# Altium footprint library MyLibrary.PcbLib: 365 footprints (part 15 of 23)
Each footprint in its own frame and in the unit in brackets; x right, y up, seen from the top. Pads: shape width x height; smd on the part's side, far side on the other; paste and mask are expansions set on the pad; w line width, h text height; cw(c..) or ccw(c..) is an arc to the next point about the centre after c.
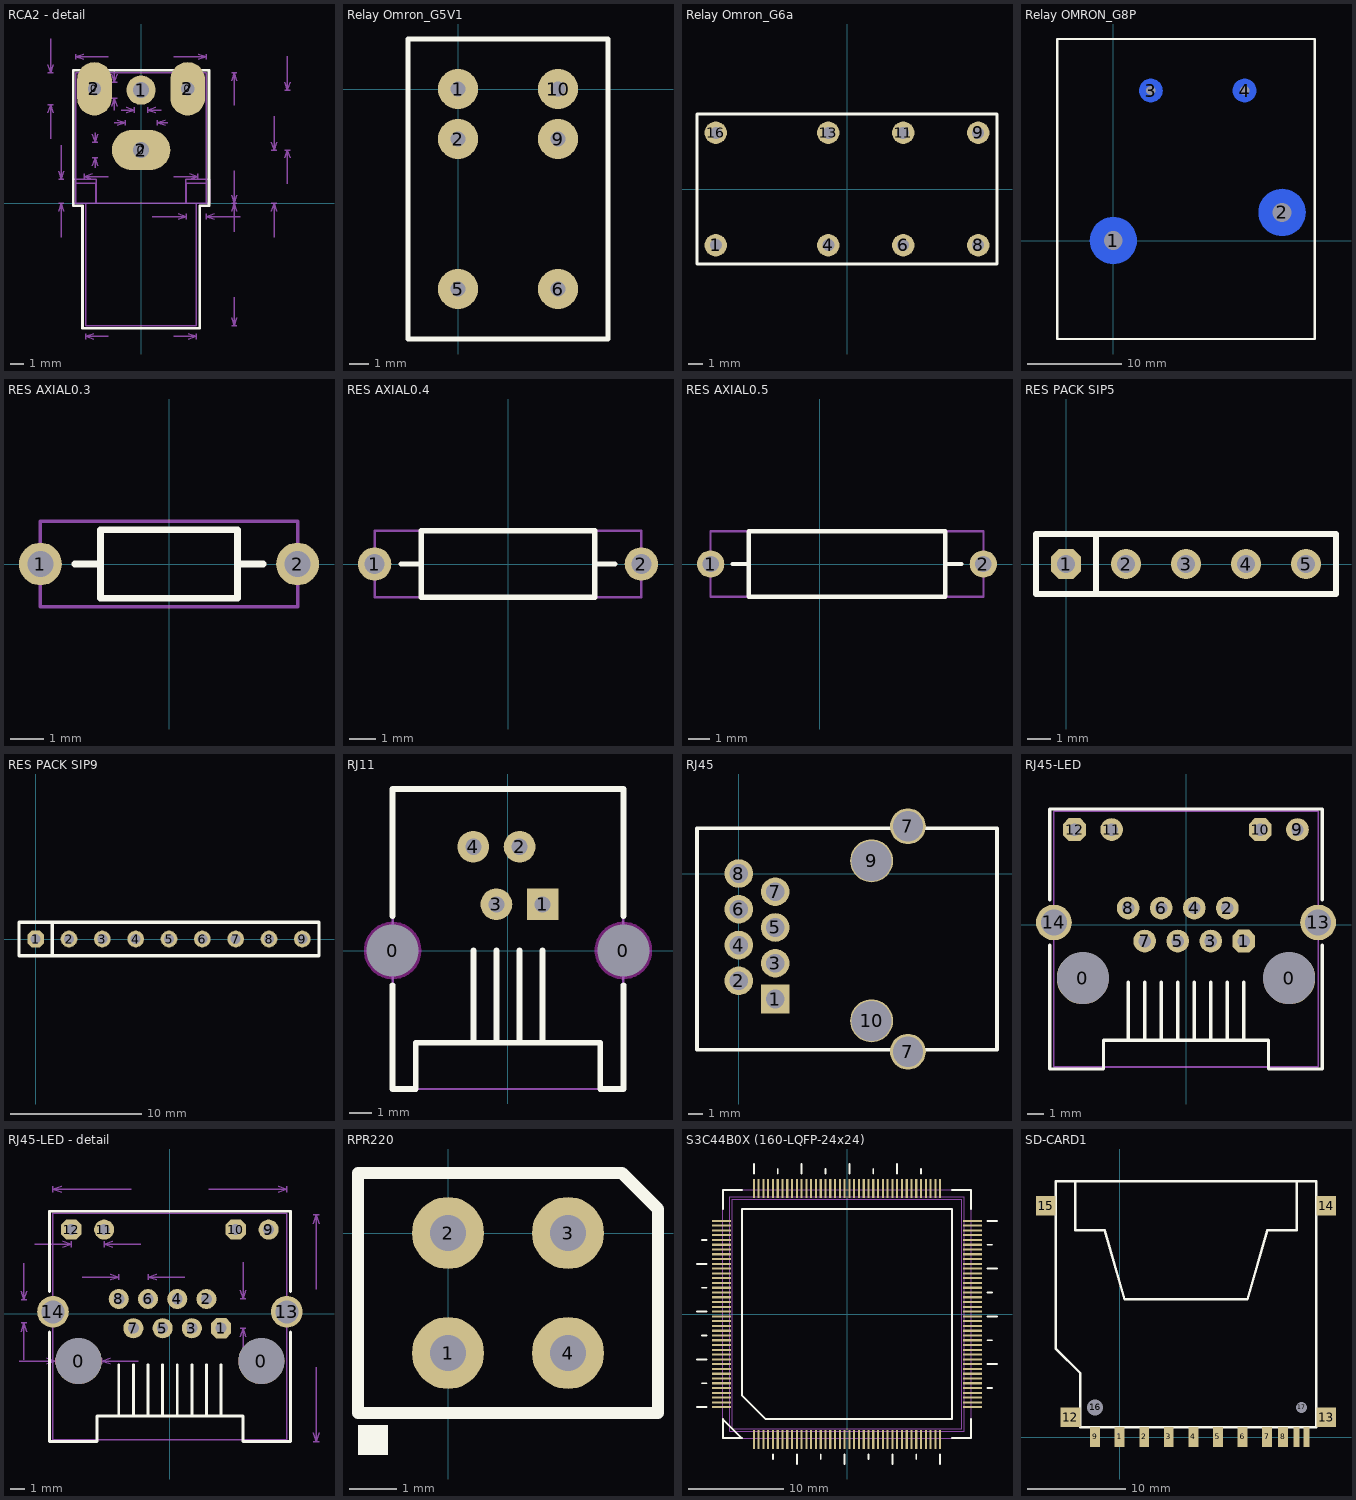
[diagram p14: the footprints below, top view; thin cyan lines are the x and y axes]

## RCA2 - detail [mm]
pads (7):
  rect 1x2.4 on Mech2: 0(-3.5,8.6) 0(3.5,8.6)
  rect 2.4x1.2 on Mech2: 0(0,4)
  round 2.2 hole 1.2: 1(0,8.5)
  oval 2.6x4 hole 1: 2(-3.5,8.6) 2(3.5,8.6)
  oval 4.4x3 hole 1.2: 2(0,4)
Top Overlay:
  lines w0.2: -5.1,-0.2 -4.4,-0.2 -4.4,-9.4 4.4,-9.4 4.4,-0.2 5.1,-0.2 5.1,10 -5.1,10 -5.1,-0.2
Mechanical 1:
  lines w0.1: -7,6.8 -6.8,7.4 ; -7,7.4 -6.6,7.4 ; -7,9.8 -6.6,9.8 ; -7,10.4 -6.8,9.8 ; -6.8,4.86 -6.8,7.4 ; -6.8,12.34 -6.8,9.8 ; -6.6,6.8 -6.8,7.4 ; -6.6,10.4 -6.8,9.8 ; -6.2,-0.6 -6,0 ; -6.2,0 -5.8,0 ; -6.2,1.8 -5.8,1.8 ; -6.2,2.4 -6,1.8 ; -6,-2.54 -6,0 ; -6,4.34 -6,1.8 ; -5.8,-0.6 -6,0 ; -5.8,2.4 -6,1.8 ; -4.9,1.5 -3.4,1.5 -3.4,0 ; -4.9,10.8 -4.9,11.2 ; -4.3,10.8 -4.9,11 ; -4.3,11.2 -4.9,11 ; -4.25,1.8 -4.25,2.2 ; -4.15,-10.2 -4.15,-9.8 ; -4.15,0 -4.15,-9.2 4.15,-9.2 4.15,0 ; -4,9.8 -4,7.4 -3,7.4 -3,9.8 ; -3.65,1.8 -4.25,2 ; -3.65,2.2 -4.25,2 ; -3.65,2.8 -3.45,3.4 ; -3.65,3.4 -3.25,3.4 ; -3.65,4.6 -3.25,4.6 ; -3.65,5.2 -3.45,4.6 ; -3.55,-10.2 -4.15,-10 ; -3.55,-9.8 -4.15,-10 ; -3.45,2.65 -3.45,3.4 ; -3.45,5.3 -3.45,4.6 ; -3.25,2.8 -3.45,3.4 ; -3.25,5.2 -3.45,4.6 ; -2.453,-10 -4.15,-10 ; -2.453,2 -4.25,2 ; -2.453,11 -4.9,11 ; -2.2,7.3 -2,7.9 ; -2.2,7.9 -1.8,7.9 ; -2.2,9.1 -1.8,9.1 ; -2.2,9.7 -2,9.1 ; -2,6.05 -1.2,6.05 ; -2,7 -2,7.9 ; -2,10 -2,9.1 ; -1.8,5.85 -1.2,6.05 ; -1.8,6.25 -1.2,6.05 ; -1.8,7.3 -2,7.9 ; -1.8,9.7 -2,9.1 ; -1.5,7 -0.5,7 ; -1.2,5.85 -1.2,6.25 ; -1.1,6.8 -0.5,7 ; -1.1,7.2 -0.5,7 ; -0.5,6.8 -0.5,7.2 ; 0.5,6.8 0.5,7.2 ; 0.86,-1 3.4,-1 ; 1.1,6.8 0.5,7 ; 1.1,7.2 0.5,7 ; 1.2,5.85 1.2,6.25 ; 1.5,7 0.5,7 ; 1.8,5.85 1.2,6.05 ; 1.8,6.25 1.2,6.05 ; 2,6.05 1.2,6.05 ; 2.453,-10 4.15,-10 ; 2.453,2 4.25,2 ; 2.453,11 4.9,11 ; 2.8,-1.2 3.4,-1 ; 2.8,-0.8 3.4,-1 ; 3,9.8 3,7.4 4,7.4 4,9.8 ; 3.4,-1.2 3.4,-0.8 ; 3.4,0 3.4,1.5 4.9,1.5 ; 3.55,-10.2 4.15,-10 ; 3.55,-9.8 4.15,-10 ; 3.65,1.8 4.25,2 ; 3.65,2.2 4.25,2 ; 4.15,-10.2 4.15,-9.8 ; 4.25,1.8 4.25,2.2 ; 4.3,10.8 4.9,11 ; 4.3,11.2 4.9,11 ; 4.9,-1.2 4.9,-0.8 ; 4.9,10.8 4.9,11.2 ; 5.5,-1.2 4.9,-1 ; 5.5,-0.8 4.9,-1 ; 6.8,-9.2 7.2,-9.2 ; 6.8,-8.6 7,-9.2 ; 6.8,-0.6 7,0 ; 6.8,0.6 7,0 ; 6.8,9.2 7,9.8 ; 6.8,9.8 7.2,9.8 ; 7,-7.053 7,-9.2 ; 7,-2.147 7,0 ; 7,2.447 7,0 ; 7,7.353 7,9.8 ; 7.2,-8.6 7,-9.2 ; 7.2,-0.6 7,0 ; 7.2,0.6 7,0 ; 7.2,9.2 7,9.8 ; 7.44,-1 4.9,-1 ; 9.8,-0.6 10,0 ; 9.8,0 10.2,0 ; 9.8,4 10.2,4 ; 9.8,4.6 10,4 ; 10,-2.54 10,0 ; 10,6.54 10,4 ; 10.2,-0.6 10,0 ; 10.2,4.6 10,4 ; 10.8,3.4 11,4 ; 10.8,4 11.2,4 ; 10.8,8.5 11.2,8.5 ; 10.8,9.1 11,8.5 ; 11,1.46 11,4 ; 11,11.04 11,8.5 ; 11.2,3.4 11,4 ; 11.2,9.1 11,8.5 ; -4.9,0 4.9,0 4.9,9.8 -4.9,9.8 -4.9,0 ; -1.2,3.4 1.2,3.4 1.2,4.6 -1.2,4.6 -1.2,3.4 ; -0.5,7.9 -0.5,9.1 0.5,9.1 0.5,7.9 -0.5,7.9 ; 6.8,0 7.2,0 6.8,0
  text "4.5 (mm)" at 11.35,4.15 h0.6
  text "4 (mm)" at 10.25,0.3 h0.6
  text "1.5 (mm)" at -0.25,-2.05 h0.6
  text "1.8 (mm)" at -6.75,-1.5 h0.6
  text "9.8 (mm)" at -2.199,10.6 h0.6
  text "8.5 (mm)" at -2.199,1.6 h0.6
  text "9.8 (mm)" at 7.4,2.701 h0.6
  text "9.2 (mm)" at 7.4,-6.799 h0.6
  text "8.3 (mm)" at -2.199,-10.4 h0.6
  text "2.4 (mm)" at 2.2,5.75 h0.6
  text "1 (mm)" at 1.65,6.8 h0.6
  text "1.2 (mm)" at -3.8,2.3 h0.6
  text "1.2 (mm)" at -1.75,10.25 h0.6
  text "2.4 (mm)" at -5.2,6.401 h0.6
Mechanical 2:
  lines w0.1: -5.15,0 -5.15,1.8 -3.35,1.8 -3.35,0 -5.15,0 ; 3.35,0 3.35,1.8 5.15,1.8 5.15,0 3.35,0

## Relay Omron_G5V1 [mil]
pads (6):
  round 80 hole 30: 1(0,0) 2(0,-100) 5(0,-400) 6(200,-400) 9(200,-100) 10(200,0)
Top Overlay:
  lines w10: -100,-500 300,-500 300,100 -100,100 -100,-500

## Relay Omron_G6a [mil]
pads (8):
  round 60 hole 32: 1(-350,-150) 4(-50,-150) 6(150,-150) 8(350,-150) 9(350,150) 11(150,150) 13(-50,150) 16(-350,150)
Top Overlay:
  lines w8: -400,-200 400,-200 400,200 -400,200 -400,-200

## Relay OMRON_G8P [mm]
pads (4):
  round 5 on Bottom hole 2: 1(0,0) 2(18,3)
  round 2.5 on Bottom hole 1: 3(4,16) 4(14,16)
Top Overlay:
  lines w0.254: -6,-10.5 -6,21.5 21.5,21.5 21.5,-10.5 -6,-10.5

## RES AXIAL0.3 [mil]
pads (2):
  round 50 hole 30: 1(-150,0) 2(150,0)
Top Overlay:
  lines w7.87: -110,0 -80,0 ; 80,0 110,0 ; -80,-40 80,-40 80,40 -80,40 -80,-40
Mechanical 1:
  lines w3.94: -150,-50 -150,50 150,50 150,-50 -150,-50

## RES AXIAL0.4 [mil]
pads (2):
  round 50 hole 30: 1(-200,0) 2(200,0)
Top Overlay:
  lines w7.87: -160,0 -130,0 ; 130,0 160,0 ; -130,-50 -130,50 130,50 130,-50 -130,-50
Mechanical 1:
  lines w3.94: -200,-50 200,-50 200,50 -200,50 -200,-50

## RES AXIAL0.5 [mil]
pads (2):
  round 50 hole 30: 1(-200,0) 2(300,0)
Top Overlay:
  lines w7.87: -160,0 -130,0 ; 230,0 260,0 ; -130,-60 -130,60 230,60 230,-60 -130,-60
Mechanical 1:
  lines w3.94: -200,-60 300,-60 300,60 -200,60 -200,-60

## RES PACK SIP5 [mil]
pads (5):
  oct 50x50 hole 30: 1(0,0)
  round 50 hole 30: 2(100,0) 3(200,0) 4(300,0) 5(400,0)
Top Overlay:
  lines w10: 50,-50 50,50 ; -50,-50 450,-50 450,50 -50,50 -50,-50

## RES PACK SIP9 [mil]
pads (9):
  oct 50x50 hole 30: 1(0,0)
  round 50 hole 30: 2(100,0) 3(200,0) 4(300,0) 5(400,0) 6(500,0) 7(600,0) 8(700,0) 9(800,0)
Top Overlay:
  lines w10: 50,-50 50,50 ; -50,-50 850,-50 850,50 -50,50 -50,-50

## RJ11 [mil]
pads (6):
  round 78.74 hole 90.55 unplated: 0(-200,0) 0(200,0)
  rect 55x55 hole 28: 1(60,80)
  round 55 hole 28: 2(20,180) 3(-20,80) 4(-60,180)
Top Overlay:
  lines w10: -200,-60 -200,-240 -160,-240 -160,-160 160,-160 160,-240 200,-240 200,-60 ; -200,60 -200,280 200,280 200,60 ; -60,-160 -60,0 ; -20,-160 -20,0 ; 20,-160 20,0 ; 60,-160 60,0
Keep-Out Layer:
  circle w10: c-200,0 r45
  circle w10: c200,0 r45
Mechanical 1:
  lines w4: -200,-240 -200,280 200,280 200,-240 -200,-240
  text "4" at -60,-180 h39.37
  text "1" at 80,-180 h39.37
  text "4" at -50,220 h39.37
  text "3" at -10,0 h39.37
  text "2" at 30,220 h39.37
  text "1" at 70,0 h39.37

## RJ45 [mm]
pads (12):
  rect 2x2 hole 1.3: 1(2.54,-8.763)
  round 2 hole 1.3: 2(0,-7.493) 3(2.54,-6.265) 4(0,-4.995) 5(2.54,-3.768) 6(0,-2.498) 7(2.54,-1.27) 8(0,0)
  round 2.5 hole 2.1: 7(11.811,-12.446) 7(11.811,3.302)
  round 3 hole 2.8: 9(9.271,0.889) 10(9.271,-10.287)
Top Overlay:
  lines w0.254: -2.921,-12.319 -2.921,3.175 18.034,3.175 18.034,-12.319 -2.921,-12.319

## RJ45-LED [mil]
pads (16):
  round 126 hole 126 unplated: 0(-250,-130) 0(250,-130)
  oct 55x55 hole 30: 1(140,-40) 10(180,230) 12(-270,230)
  round 55 hole 30: 2(100,40) 3(60,-40) 4(20,40) 5(-20,-40) 6(-60,40) 7(-100,-40) 8(-140,40) 9(270,230) 11(-180,230)
  round 86.61 hole 62.99: 13(320,5) 14(-320,5)
Top Overlay:
  lines w8: -330,-50 -330,-350 -200,-350 -200,-280 200,-280 200,-350 330,-350 330,-50 ; -330,60 -330,280 330,280 330,60 ; -140,-280 -140,-140 ; -100,-280 -100,-140 ; -60,-280 -60,-140 ; -20,-280 -20,-140 ; 20,-280 20,-140 ; 60,-280 60,-140 ; 100,-280 100,-140 ; 140,-280 140,-140
Mechanical 1:
  lines w4: -320,-345 -320,275 320,275 320,-345 -320,-345
  text "1" at 145,-120 h39.37
  text "+" at -255,150 h39.37
  text "+" at 195,150 h39.37
  text "2" at 115,80 h39.37
  text "7" at -85,-120 h39.37
  text "8" at -125,80 h39.37
  text "1" at 180,-260 h39.37
  text "8" at -160,-260 h39.37

## RJ45-LED - detail [mil]
pads (16):
  round 126 hole 126 unplated: 0(-250,-130) 0(250,-130)
  oct 55x55 hole 30: 1(140,-40) 10(180,230) 12(-270,230)
  round 55 hole 30: 2(100,40) 3(60,-40) 4(20,40) 5(-20,-40) 6(-60,40) 7(-100,-40) 8(-140,40) 9(270,230) 11(-180,230)
  round 86.61 hole 62.99: 13(320,5) 14(-320,5)
Top Overlay:
  lines w8: -330,-50 -330,-350 -200,-350 -200,-280 200,-280 200,-350 330,-350 330,-50 ; -330,60 -330,280 330,280 330,60 ; -140,-280 -140,-140 ; -100,-280 -100,-140 ; -60,-280 -60,-140 ; -20,-280 -20,-140 ; 20,-280 20,-140 ; 60,-280 60,-140 ; 100,-280 100,-140 ; 140,-280 140,-140
Bottom Overlay:
  text "8" at -160,-260 h40
  text "1" at 180,-260 h40
  text "8" at -125,80 h40
  text "7" at -85,-120 h40
  text "2" at 115,80 h40
  text "+" at 195,150 h50
  text "+" at -255,150 h50
  text "1" at 145,-120 h40
Mechanical 1:
  lines w3.94: -413,-130 -313,-130 ; -407.48,-49.21 -399.61,-25.59 ; -407.48,-25.59 -391.73,-25.59 ; -407.48,37.4 -391.73,37.4 ; -407.48,61.02 -399.61,37.4 ; -399.61,-125.59 -399.61,-25.59 ; -399.61,137.4 -399.61,37.4 ; -391.73,-49.21 -399.61,-25.59 ; -391.73,61.02 -399.61,37.4 ; -370,190 -270,190 ; -336.62,-137.87 -313,-130 ; -336.62,-122.13 -313,-130 ; -320,332.13 -320,347.87 ; -313,-137.87 -313,-122.13 ; -296.38,332.13 -320,340 ; -296.38,347.87 -320,340 ; -293.62,182.13 -270,190 ; -293.62,197.87 -270,190 ; -270,182.13 -270,197.87 ; -240,100 -140,100 ; -187,-137.87 -187,-122.13 ; -180,182.13 -180,197.87 ; -163.62,92.13 -140,100 ; -163.62,107.87 -140,100 ; -163.38,-137.87 -187,-130 ; -163.38,-122.13 -187,-130 ; -156.38,182.13 -180,190 ; -156.38,197.87 -180,190 ; -140,92.13 -140,107.87 ; -106.43,340 -320,340 ; -87,-130 -187,-130 ; -80,190 -180,190 ; -60,92.13 -60,107.87 ; -36.38,92.13 -60,100 ; -36.38,107.87 -60,100 ; 40,100 -60,100 ; 106.43,340 320,340 ; 192.13,-63.62 200,-40 ; 192.13,-40 207.87,-40 ; 192.13,40 207.87,40 ; 192.13,63.62 200,40 ; 200,-140 200,-40 ; 200,140 200,40 ; 207.87,-63.62 200,-40 ; 207.87,63.62 200,40 ; 296.38,332.13 320,340 ; 296.38,347.87 320,340 ; 320,332.13 320,347.87 ; 392.13,-350 407.87,-350 ; 392.13,-326.38 400,-350 ; 392.13,246.38 400,270 ; 392.13,270 407.87,270 ; 400,-146.43 400,-350 ; 400,66.43 400,270 ; 407.87,-326.38 400,-350 ; 407.87,246.38 400,270
  lines w4: -320,-345 -320,275 320,275 320,-345 -320,-345
  text "126 (mil)" at -344.46,-192.98 h23.62
  text "640 (mil)" at -96.43,324.26 h23.62
  text "620 (mil)" at 415.74,-136.43 h23.62
  text "1.6 (mm)" at -419.29,-88.58 h23.62
  text "80 (mil)" at -160,120 h23.62
  text "80 (mil)" at 240,-50 h23.62
  text "90 (mil)" at -70,180 h23.62

## RPR220 [mil]
pads (4):
  round 60 hole 30: 1(0,-100) 2(0,0) 3(100,0) 4(100,-100)
Top Overlay:
  rectangle: -75,-185 -50,-160
  lines w10: -75,-150 -75,50 145,50 175,20 175,-125 175,-150 150,-150 -75,-150

## S3C44B0X (160-LQFP-24x24) [mm]
pads (160):
  rect 0.22x2 smd: 1(-9.75,-13.15) 2(-9.25,-13.15) 3(-8.75,-13.15) 4(-8.25,-13.15) 5(-7.75,-13.15) 6(-7.25,-13.15) 7(-6.75,-13.15) 8(-6.25,-13.15) 9(-5.75,-13.15) 10(-5.25,-13.15) 11(-4.75,-13.15) 12(-4.25,-13.15) 13(-3.75,-13.15) 14(-3.25,-13.15) 15(-2.75,-13.15) 16(-2.25,-13.15) 17(-1.75,-13.15) 18(-1.25,-13.15) 19(-0.75,-13.15) 20(-0.25,-13.15) 21(0.25,-13.15) 22(0.75,-13.15) 23(1.25,-13.15) 24(1.75,-13.15) 25(2.25,-13.15) 26(2.75,-13.15) 27(3.25,-13.15) 28(3.75,-13.15) 29(4.25,-13.15) 30(4.75,-13.15) 31(5.25,-13.15) 32(5.75,-13.15) 33(6.25,-13.15) 34(6.75,-13.15) 35(7.25,-13.15) 36(7.75,-13.15) 37(8.25,-13.15) 38(8.75,-13.15) 39(9.25,-13.15) 40(9.75,-13.15) 81(9.75,13.15) 82(9.25,13.15) 83(8.75,13.15) 84(8.25,13.15) 85(7.75,13.15) 86(7.25,13.15) 87(6.75,13.15) 88(6.25,13.15) 89(5.75,13.15) 90(5.25,13.15) 91(4.75,13.15) 92(4.25,13.15) 93(3.75,13.15) 94(3.25,13.15) 95(2.75,13.15) 96(2.25,13.15) 97(1.75,13.15) 98(1.25,13.15) 99(0.75,13.15) 100(0.25,13.15) 101(-0.25,13.15) 102(-0.75,13.15) 103(-1.25,13.15) 104(-1.75,13.15) 105(-2.25,13.15) 106(-2.75,13.15) 107(-3.25,13.15) 108(-3.75,13.15) 109(-4.25,13.15) 110(-4.75,13.15) 111(-5.25,13.15) 112(-5.75,13.15) 113(-6.25,13.15) 114(-6.75,13.15) 115(-7.25,13.15) 116(-7.75,13.15) 117(-8.25,13.15) 118(-8.75,13.15) 119(-9.25,13.15) 120(-9.75,13.15)
  rect 2x0.22 smd: 41(13.15,-9.75) 42(13.15,-9.25) 43(13.15,-8.75) 44(13.15,-8.25) 45(13.15,-7.75) 46(13.15,-7.25) 47(13.15,-6.75) 48(13.15,-6.25) 49(13.15,-5.75) 50(13.15,-5.25) 51(13.15,-4.75) 52(13.15,-4.25) 53(13.15,-3.75) 54(13.15,-3.25) 55(13.15,-2.75) 56(13.15,-2.25) 57(13.15,-1.75) 58(13.15,-1.25) 59(13.15,-0.75) 60(13.15,-0.25) 61(13.15,0.25) 62(13.15,0.75) 63(13.15,1.25) 64(13.15,1.75) 65(13.15,2.25) 66(13.15,2.75) 67(13.15,3.25) 68(13.15,3.75) 69(13.15,4.25) 70(13.15,4.75) 71(13.15,5.25) 72(13.15,5.75) 73(13.15,6.25) 74(13.15,6.75) 75(13.15,7.25) 76(13.15,7.75) 77(13.15,8.25) 78(13.15,8.75) 79(13.15,9.25) 80(13.15,9.75) 121(-13.15,9.75) 122(-13.15,9.25) 123(-13.15,8.75) 124(-13.15,8.25) 125(-13.15,7.75) 126(-13.15,7.25) 127(-13.15,6.75) 128(-13.15,6.25) 129(-13.15,5.75) 130(-13.15,5.25) 131(-13.15,4.75) 132(-13.15,4.25) 133(-13.15,3.75) 134(-13.15,3.25) 135(-13.15,2.75) 136(-13.15,2.25) 137(-13.15,1.75) 138(-13.15,1.25) 139(-13.15,0.75) 140(-13.15,0.25) 141(-13.15,-0.25) 142(-13.15,-0.75) 143(-13.15,-1.25) 144(-13.15,-1.75) 145(-13.15,-2.25) 146(-13.15,-2.75) 147(-13.15,-3.25) 148(-13.15,-3.75) 149(-13.15,-4.25) 150(-13.15,-4.75) 151(-13.15,-5.25) 152(-13.15,-5.75) 153(-13.15,-6.25) 154(-13.15,-6.75) 155(-13.15,-7.25) 156(-13.15,-7.75) 157(-13.15,-8.25) 158(-13.15,-8.75) 159(-13.15,-9.25) 160(-13.15,-9.75)
Top Overlay:
  lines w0.203: -15.7,-9.75 -14.7,-9.75 ; -15.7,-4.75 -14.7,-4.75 ; -15.7,0.25 -14.7,0.25 ; -15.7,5.25 -14.7,5.25 ; -15.2,-7.25 -14.7,-7.25 ; -15.2,-2.25 -14.7,-2.25 ; -15.2,2.75 -14.7,2.75 ; -15.2,7.75 -14.7,7.75 ; -13,11 -13,13 -11,13 ; -9.75,14.7 -9.75,15.7 ; -7.75,-15.2 -7.75,-14.7 ; -7.25,14.7 -7.25,15.2 ; -5.25,-15.7 -5.25,-14.7 ; -4.75,14.7 -4.75,15.7 ; -2.75,-15.2 -2.75,-14.7 ; -2.25,14.7 -2.25,15.2 ; -0.25,-15.7 -0.25,-14.7 ; 0.25,14.7 0.25,15.7 ; 2.25,-15.2 2.25,-14.7 ; 2.75,14.7 2.75,15.2 ; 4.75,-15.7 4.75,-14.7 ; 5.25,14.7 5.25,15.7 ; 7.25,-15.2 7.25,-14.7 ; 7.75,14.7 7.75,15.2 ; 9.75,-15.7 9.75,-14.7 ; 11,-13 13,-13 13,-11 ; 11,13 13,13 13,11 ; 14.7,-7.75 15.2,-7.75 ; 14.7,-5.25 15.7,-5.25 ; 14.7,-2.75 15.2,-2.75 ; 14.7,-0.25 15.7,-0.25 ; 14.7,2.25 15.2,2.25 ; 14.7,4.75 15.7,4.75 ; 14.7,7.25 15.2,7.25 ; 14.7,9.75 15.7,9.75 ; -13,-13 -11,-13 -13,-11 -13,-13 ; -11,-8.5 -11,11 11,11 11,-11 -8.5,-11 -11,-8.5
Mechanical 1:
  lines w0.1: -13,-13 13,-13 13,13 -13,13 -13,-13 ; -12.25,-12.25 -12.25,12.25 12.25,12.25 12.25,-12.25 -12.25,-12.25
  lines w0.102: -12,-12 -12,12 12,12 12,-12 -12,-12

## SD-CARD1 [mm]
pads (17):
  rect 1x2 smd: 1(0.007,0.016) 2(2.507,0.016) 3(5.007,0.016) 4(7.507,0.016) 5(10.007,0.016) 6(12.507,0.016) 7(15.007,0.016) 8(16.632,0.016) 9(-2.493,0.016)
  rect 0.6x2 smd: 10(19.007,0.016) 11(18.007,0.016)
  rect 2x2 smd: 12(-4.993,2.016) 13(21.007,2.016) 14(21.007,23.516) 15(-7.493,23.516)
  round 1.5 hole 1.6: 16(-2.493,3.016)
  round 1 hole 1.1: 17(18.507,3.016)
Top Overlay:
  lines w0.254: -4.493,26.016 -4.493,21.016 -1.493,21.016 0.507,14.016 13.007,14.016 15.007,21.016 18.007,21.016 18.007,26.016 ; -6.493,9.016 -6.493,26.016 20.007,26.016 20.007,1.016 -3.993,1.016 -3.993,6.516 -6.493,9.016